# EAGLE library part THB8128 (library THB8128)
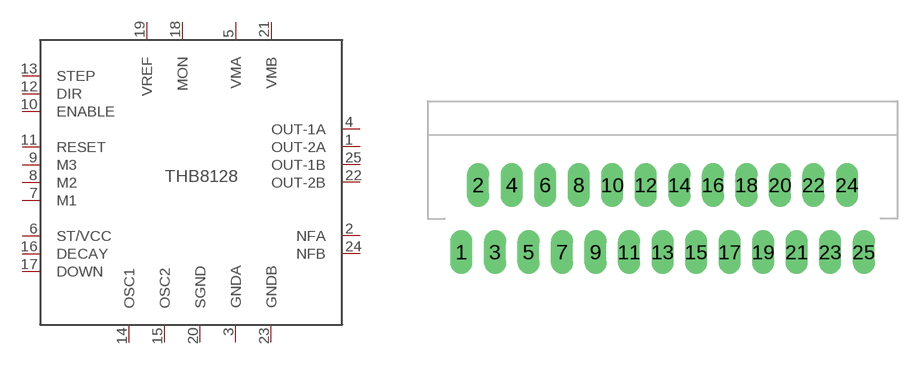
[diagram p0: symbol with the pads of HZIP25; footprint HZIP25]

Designator prefix -

## THB8128VERTICAL  [HZIP25]
1  OUT-2A  out
2  NFA  pas
3  GNDA  pwr
4  OUT-1A  out
5  VMA  pwr
6  ST/VCC
7  M1  in
8  M2  in
9  M3  in
10  ENABLE  in
11  RESET  in
12  DIR  in
13  STEP  in
14  OSC1  pas
15  OSC2  pas
16  DECAY  pas
17  DOWN  pas
18  MON  pas
19  VREF  pwr
20  SGND  pwr
21  VMB  pwr
22  OUT-2B  out
23  GNDB  pwr
24  NFB  in
25  OUT-1B  pwr

## Footprint HZIP25 (pad centres in mm)
THB8128 vertical
drill 0.8 long: 1 -14,-5; 2 -13,-1; 3 -12,-5; 4 -11,-1; 5 -10,-5; 6 -9,-1; 7 -8,-5; 8 -7,-1; 9 -6,-5; 10 -5,-1; 11 -4,-5; 12 -3,-1; 13 -2,-5; 14 -1,-1; 15 0,-5; 16 1,-1; 17 2,-5; 18 3,-1; 19 4,-5; 20 5,-1; 21 6,-5; 22 7,-1; 23 8,-5; 24 9,-1; 25 10,-5